# Altium footprint library 16 Pin Real.PcbLib: 1 footprints
Each footprint in its own frame and in the unit in brackets; x right, y up, seen from the top. Pads: shape width x height; smd on the part's side, far side on the other; paste and mask are expansions set on the pad; w line width, h text height; cw(c..) or ccw(c..) is an arc to the next point about the centre after c.
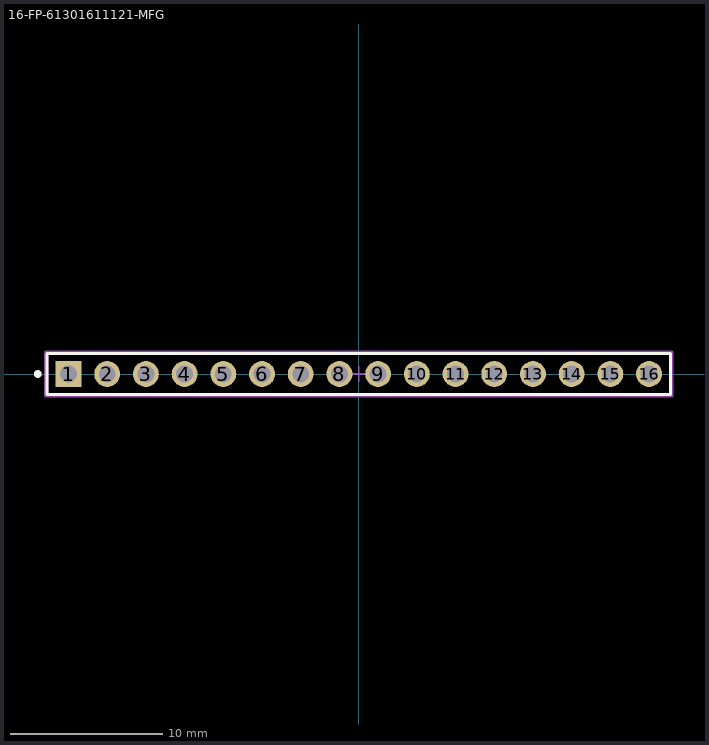
[diagram p0: the footprint, top view; thin cyan lines are the x and y axes]

## 16-FP-61301611121-MFG [mm]
pads (16):
  rect 1.7x1.7 hole 1.1 paste-1000 mask+0: 1(-19.05,0)
  round 1.7 hole 1.1 paste-1000 mask+0: 2(-16.51,0) 3(-13.97,0) 4(-11.43,0) 5(-8.89,0) 6(-6.35,0) 7(-3.81,0) 8(-1.27,0) 9(1.27,0) 10(3.81,0) 11(6.35,0) 12(8.89,0) 13(11.43,0) 14(13.97,0) 15(16.51,0) 16(19.05,0)
Top Overlay:
  circle w0.25: c-21.07,0 r0.125
  lines w0.2: -20.47,-1.345 20.47,-1.345 20.47,1.345 -20.47,1.345 -20.47,-1.345
Top Assembly:
  lines w0.2: -20.57,-1.445 20.57,-1.445 20.57,1.445 -20.57,1.445 -20.57,-1.445
  text ".Designator" at 0,0.188 h1
Top 3D Body:
  lines w0.2: -20.47,-1.345 20.47,-1.345 20.47,1.345 -20.47,1.345 -20.47,-1.345
Top Courtyard:
  lines w0.2: -20.57,-1.445 20.57,-1.445 20.57,1.445 -20.57,1.445 -20.57,-1.445
Top Component Center:
  lines w0.1: -0.5,0 0.5,0 ; 0,-0.5 0,0.5
3D body "Conn_Wurth_Electronics_61301611121_eec.STEP": height 0.25, standoff 0, extent -20.57,-1.445 20.57,1.445